# EAGLE library part 233-208 (library con-wago_233)
Serie 233, Klemmenleiste für Leiterplatten; 2 Lötstifte/Pol; 8-polig; Rastermaß 2,5 mm / 0.098 in; mit Betätigungsdrücker / Series 233, PCB terminal strip; 2 solder pins/pole; 8-pole; Pin spacing 2.5 mm / 0.098 in; with push-button Polzahl / Pole No.: 8 Rastermaß / Pitch: 2.5 - 2.5 mm Bemessungsspannung / Rated Voltage: 160 V Nennstrom / Nominal Current: 6 A Leiterquerschnitt / Conductor Size: 0.08 - 0.5 mm2 Anschlusstechnik / Connection Technology: CAGE CLAMP® Lötstiftlänge: / Solder Pin Length: 4 mm Leitereinführung (zur Platine) / Conductor entry angle (to PCB): 30 ° Farbe / Color: grau / gray Stand: 01.01.2015. Die jeweils aktuellen Daten zu diesem Artikel finden Sie in unserem Produktkatalog, den Sie unter www.wago.com einsehen können. As of: 01/01/2015. Please find the newest data for this article in our product catalogue, which can be viewed under www.wago.com.
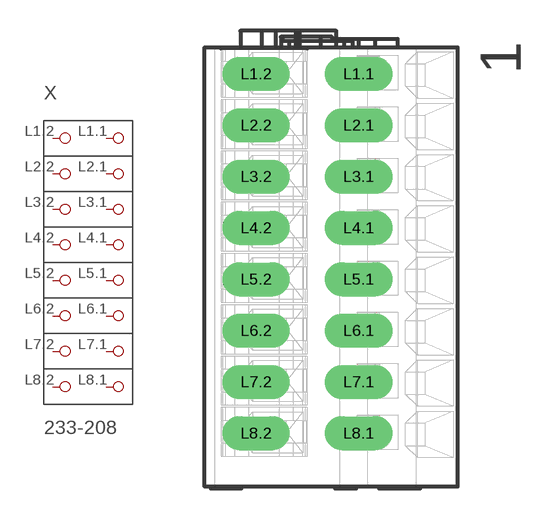
[diagram p16: symbol with the pads of P-233-208; footprint P-233-208]

Designator prefix X

## 233-208  [P-233-208]
L1.1  P1.1
L1.2  P1.2
L2.1  P2.1
L2.2  P2.2
L3.1  P3.1
L3.2  P3.2
L4.1  P4.1
L4.2  P4.2
L5.1  P5.1
L5.2  P5.2
L6.1  P6.1
L6.2  P6.2
L7.1  P7.1
L7.2  P7.2
L8.1  P8.1
L8.2  P8.2

## Footprint P-233-208 (pad centres in mm)
drill 1.1 long: L1.1 0,-1.3; L1.2 -5,-1.3; L2.1 0,-3.8; L2.2 -5,-3.8; L3.1 0,-6.3; L3.2 -5,-6.3; L4.1 0,-8.8; L4.2 -5,-8.8; L5.1 0,-11.3; L5.2 -5,-11.3; L6.1 0,-13.8; L6.2 -5,-13.8; L7.1 0,-16.3; L7.2 -5,-16.3; L8.1 0,-18.8; L8.2 -5,-18.8